# EAGLE library part DAISY_MP3PLAYER (library MlabPaja)
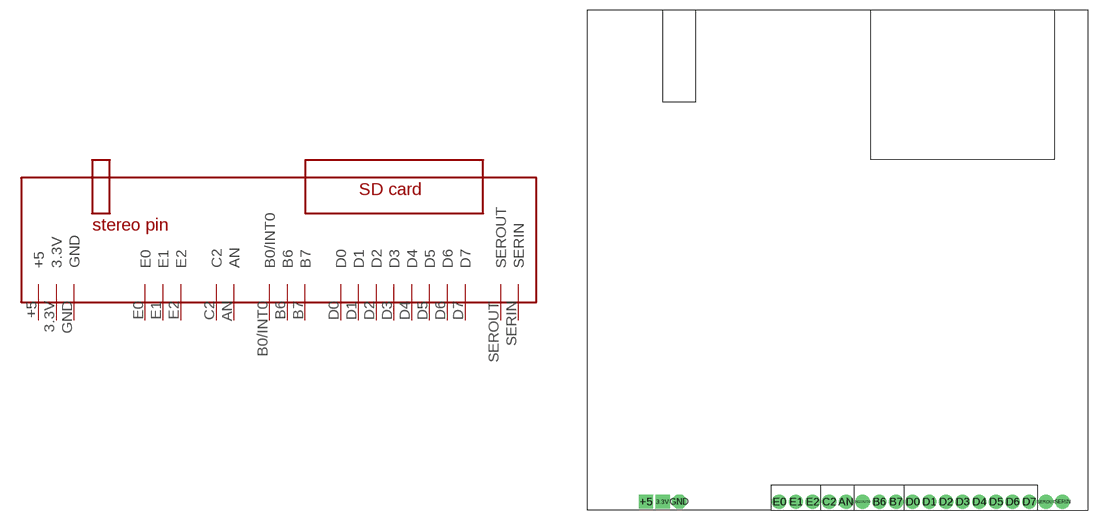
[diagram p6: symbol with the pads of DAISY_MP3PLAYER; footprint DAISY_MP3PLAYER]

Designator prefix MP3PLAYER_

## DAISY_MP3PLAYER  [DAISY_MP3PLAYER]
3.3V  3.3V  pas
+5  +5  pwr
AN  AN
B0/INT0  B0/INT0
B6  B6
B7  B7
C2  C2
D0  D0
D1  D1
D2  D2
D3  D3
D4  D4
D5  D5
D6  D6
D7  D7
E0  E0
E1  E1
E2  E2
GND  GND  pwr
SERIN  SERIN
SEROUT  SEROUT

## Footprint DAISY_MP3PLAYER (pad centres in mm)
drill 1 pad 2.184 square: 3.3V -26.67,-38.1; +5 -29.21,-38.1
drill 1 pad 2.184 round: AN 1.27,-38.1; B0/INT0 3.81,-38.1; B6 6.35,-38.1; B7 8.89,-38.1; C2 -1.27,-38.1; D0 11.43,-38.1; D1 13.97,-38.1; D2 16.51,-38.1; D3 19.05,-38.1; D4 21.59,-38.1; D5 24.13,-38.1; D6 26.67,-38.1; D7 29.21,-38.1; E0 -8.89,-38.1; E1 -6.35,-38.1; E2 -3.81,-38.1; SERIN 34.29,-38.1; SEROUT 31.75,-38.1
drill 1 pad 2.184 octagon: GND -24.13,-38.1